# Altium integrated library CC0402BRNPO9BN2R4.IntLib: 1 symbol
Pins are listed as number, name and electrical type; pins without a type are passive.

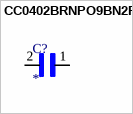
[diagram p0: symbol CC0402BRNPO9BN2R4]

## CC0402BRNPO9BN2R4
designator C?
2.4pF Â±0.1pF 50V Ceramic Capacitor C0G, NP0 0402 (1005 Metric); MP: CC0402BRNPO9BN2R4; MF: Yageo; Value: *; Availability: Good; Package: 0402 Yageo; Check_prices: https://www.snapeda.com/parts/CC0402BRNPO9BN2R4/Yageo/view-part/1824876/?ref=eda; Purchase-URL: https://pricing.snapeda.com/search/part/CC0402BRNPO9BN2R4/?ref=eda; SnapEDA_Link: https://www.snapeda.com/parts/CC0402BRNPO9BN2R4/Yageo/view-part/1824876/?ref=snap; Price: None
footprint CAPC1005X55N
pins: 1, 2